# EAGLE library part AD8675 (library Marcell)
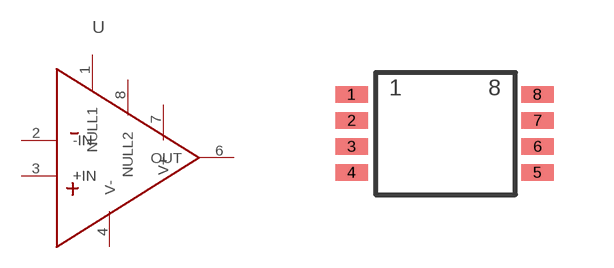
[diagram p2: symbol with the pads of MSOP08; footprint MSOP08]

Designator prefix -

## AD8675  [MSOP08]
1  NULL1
2  -IN
3  +IN
4  V-
6  OUT
7  V+
8  NULL2

## Footprint MSOP08 (pad centres in mm)
smd 0.813 x 0.406: 1 -3.104,1.3; 2 -3.104,0.65; 3 -3.104,0; 4 -3.104,-0.65; 5 1.55,-0.65; 6 1.55,0; 7 1.55,0.65; 8 1.55,1.3